# Altium integrated library NSC Switcher.IntLib: 2027 symbols (part 53 of 54)
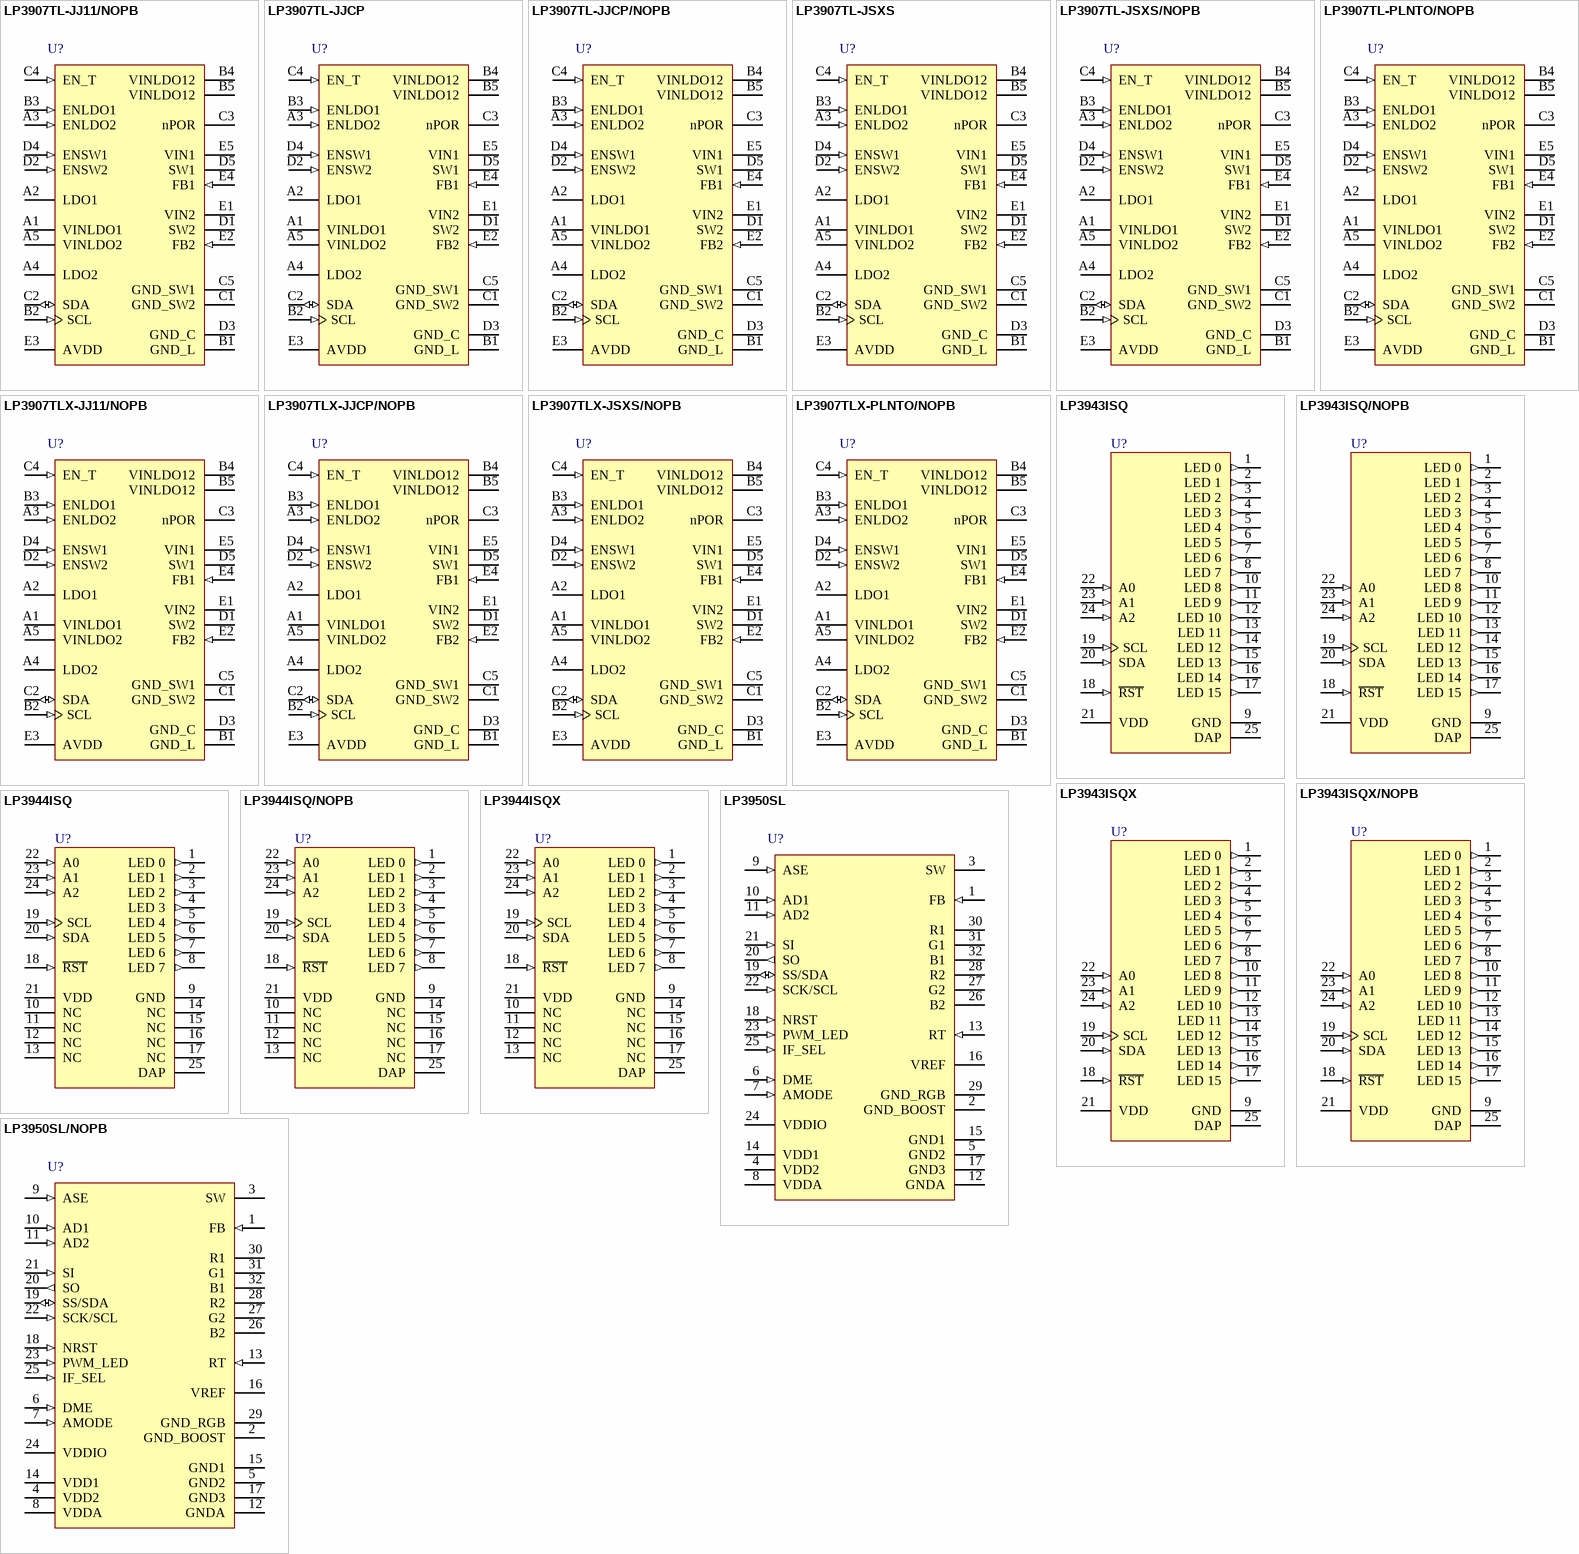
[diagram p115: symbols LP3907TL-JJ11/NOPB to LP3950SL/NOPB]

## LP3907TL-PLNTO/NOPB
designator U?
Dual High-Current Step-Down DC/DC and Dual Linear Regulator with I2C Compatible Interface, 25 pin Micro SMD, Pb-Free; PartNumber: LP3907TL-PLNTO/NOPB; Manufacturer: National Semiconductor; PackageTopMarking: XYTT*I V027; PowerWise: N; CompType: Switcher; Published: 1-Mar-2010; DatasheetVersion: Dec-2009; PackageVersion: revD, Dec-2003; PackageReference: TLA25AAA; Publisher: Altium Limited; PackageDescription: Thin Micro SMD, 25 Bump (Large), 0.5mm Pitch; RoHS: Y; PinCount: 25; Code_JEDEC: MO-211-DH; ComponentLink1Description: LP3907 Datasheet; ComponentLink1URL: http://www.national.com/ds/LP/LP3907.pdf; ComponentLink2Description: LP3907 Web Page; ComponentLink2URL: http://www.national.com/pf/LP/LP3907.html; ComponentLink3Description: TLA25AAA Package Page; ComponentLink3URL: http://www.national.com/packaging/folders/tla25aaa.html
footprint TLA25AAA (Micro SMD, 25-Leads, Body 2.49x2.49mm, Pitch 0.5mm, NSC Recommended)
pins: A1 VINLDO1 (power), A2 LDO1 (power), A3 ENLDO2 (in), A4 LDO2 (power), A5 VINLDO2 (power), B1 GND_L (power), B2 SCL (in), B3 ENLDO1 (in), B4 VINLDO12 (power), B5 VINLDO12 (power), C1 GND_SW2 (power), C2 SDA (io), C3 nPOR (oc), C4 EN_T (in), C5 GND_SW1 (power), D1 SW2 (power), D2 ENSW2 (in), D3 GND_C (power), D4 ENSW1 (in), D5 SW1 (power), E1 VIN2 (power), E2 FB2 (in), E3 AVDD (power), E4 FB1 (in), E5 VIN1 (power)

## LP3907TLX-JJ11/NOPB
designator U?
Dual High-Current Step-Down DC/DC and Dual Linear Regulator with I2C Compatible Interface, 25-pin Micro SMD, Pb-Free; PartNumber: LP3907TLX-JJ11/NOPB; Manufacturer: National Semiconductor; PackageTopMarking: XYTT*I V013; PowerWise: N; CompType: Switcher; Published: 1-Mar-2010; DatasheetVersion: Dec-2009; PackageVersion: revD, Dec-2003; PackageReference: TLA25AAA; Publisher: Altium Limited; PackageDescription: Thin Micro SMD, 25 Bump (Large), 0.5mm Pitch; Supplier 1: Digi-Key; Supplier Part Number 1: LP3907TLX-JJ11-ND; RoHS: Y; PinCount: 25; Code_JEDEC: MO-211-DH; ComponentLink1Description: LP3907 Datasheet; ComponentLink1URL: http://www.national.com/ds/LP/LP3907.pdf; ComponentLink2Description: LP3907 Web Page; ComponentLink2URL: http://www.national.com/pf/LP/LP3907.html; ComponentLink3Description: TLA25AAA Package Page; ComponentLink3URL: http://www.national.com/packaging/folders/tla25aaa.html
footprint TLA25AAA (Micro SMD, 25-Leads, Body 2.49x2.49mm, Pitch 0.5mm, NSC Recommended)
pins: A1 VINLDO1 (power), A2 LDO1 (power), A3 ENLDO2 (in), A4 LDO2 (power), A5 VINLDO2 (power), B1 GND_L (power), B2 SCL (in), B3 ENLDO1 (in), B4 VINLDO12 (power), B5 VINLDO12 (power), C1 GND_SW2 (power), C2 SDA (io), C3 nPOR (oc), C4 EN_T (in), C5 GND_SW1 (power), D1 SW2 (power), D2 ENSW2 (in), D3 GND_C (power), D4 ENSW1 (in), D5 SW1 (power), E1 VIN2 (power), E2 FB2 (in), E3 AVDD (power), E4 FB1 (in), E5 VIN1 (power)

## LP3907TLX-JJCP/NOPB
designator U?
Dual High-Current Step-Down DC/DC and Dual Linear Regulator with I2C Compatible Interface, 25-pin Micro SMD, Pb-Free; PartNumber: LP3907TLX-JJCP/NOPB; Manufacturer: National Semiconductor; PackageTopMarking: XYTT*I V016; PowerWise: N; CompType: Switcher; Published: 1-Mar-2010; DatasheetVersion: Dec-2009; PackageVersion: revD, Dec-2003; PackageReference: TLA25AAA; Publisher: Altium Limited; PackageDescription: Thin Micro SMD, 25 Bump (Large), 0.5mm Pitch; Supplier 1: Digi-Key; Supplier Part Number 1: LP3907TLX-JJCP-ND; RoHS: Y; PinCount: 25; Code_JEDEC: MO-211-DH; ComponentLink1Description: LP3907 Datasheet; ComponentLink1URL: http://www.national.com/ds/LP/LP3907.pdf; ComponentLink2Description: LP3907 Web Page; ComponentLink2URL: http://www.national.com/pf/LP/LP3907.html; ComponentLink3Description: TLA25AAA Package Page; ComponentLink3URL: http://www.national.com/packaging/folders/tla25aaa.html
footprint TLA25AAA (Micro SMD, 25-Leads, Body 2.49x2.49mm, Pitch 0.5mm, NSC Recommended)
pins: A1 VINLDO1 (power), A2 LDO1 (power), A3 ENLDO2 (in), A4 LDO2 (power), A5 VINLDO2 (power), B1 GND_L (power), B2 SCL (in), B3 ENLDO1 (in), B4 VINLDO12 (power), B5 VINLDO12 (power), C1 GND_SW2 (power), C2 SDA (io), C3 nPOR (oc), C4 EN_T (in), C5 GND_SW1 (power), D1 SW2 (power), D2 ENSW2 (in), D3 GND_C (power), D4 ENSW1 (in), D5 SW1 (power), E1 VIN2 (power), E2 FB2 (in), E3 AVDD (power), E4 FB1 (in), E5 VIN1 (power)

## LP3907TLX-JSXS/NOPB
designator U?
Dual High-Current Step-Down DC/DC and Dual Linear Regulator with I2C Compatible Interface, 25-pin Micro SMD, Pb-Free; PartNumber: LP3907TLX-JSXS/NOPB; Manufacturer: National Semiconductor; PackageTopMarking: XYTT*I V012; PowerWise: N; CompType: Switcher; Published: 1-Mar-2010; DatasheetVersion: Dec-2009; PackageVersion: revD, Dec-2003; PackageReference: TLA25AAA; Publisher: Altium Limited; PackageDescription: Thin Micro SMD, 25 Bump (Large), 0.5mm Pitch; Supplier 1: Digi-Key; Supplier Part Number 1: LP3907TLX-JSXS-ND; RoHS: Y; PinCount: 25; Code_JEDEC: MO-211-DH; ComponentLink1Description: LP3907 Datasheet; ComponentLink1URL: http://www.national.com/ds/LP/LP3907.pdf; ComponentLink2Description: LP3907 Web Page; ComponentLink2URL: http://www.national.com/pf/LP/LP3907.html; ComponentLink3Description: TLA25AAA Package Page; ComponentLink3URL: http://www.national.com/packaging/folders/tla25aaa.html
footprint TLA25AAA (Micro SMD, 25-Leads, Body 2.49x2.49mm, Pitch 0.5mm, NSC Recommended)
pins: A1 VINLDO1 (power), A2 LDO1 (power), A3 ENLDO2 (in), A4 LDO2 (power), A5 VINLDO2 (power), B1 GND_L (power), B2 SCL (in), B3 ENLDO1 (in), B4 VINLDO12 (power), B5 VINLDO12 (power), C1 GND_SW2 (power), C2 SDA (io), C3 nPOR (oc), C4 EN_T (in), C5 GND_SW1 (power), D1 SW2 (power), D2 ENSW2 (in), D3 GND_C (power), D4 ENSW1 (in), D5 SW1 (power), E1 VIN2 (power), E2 FB2 (in), E3 AVDD (power), E4 FB1 (in), E5 VIN1 (power)

## LP3907TLX-PLNTO/NOPB
designator U?
Dual High-Current Step-Down DC/DC and Dual Linear Regulator with I2C Compatible Interface, 25 pin Micro SMD, Pb-Free; PartNumber: LP3907TLX-PLNTO/NOPB; Manufacturer: National Semiconductor; PackageTopMarking: XYTT*I V027; PowerWise: N; CompType: Switcher; Published: 1-Mar-2010; DatasheetVersion: Dec-2009; PackageVersion: revD, Dec-2003; PackageReference: TLA25AAA; Publisher: Altium Limited; PackageDescription: Thin Micro SMD, 25 Bump (Large), 0.5mm Pitch; RoHS: Y; PinCount: 25; Code_JEDEC: MO-211-DH; ComponentLink1Description: LP3907 Datasheet; ComponentLink1URL: http://www.national.com/ds/LP/LP3907.pdf; ComponentLink2Description: LP3907 Web Page; ComponentLink2URL: http://www.national.com/pf/LP/LP3907.html; ComponentLink3Description: TLA25AAA Package Page; ComponentLink3URL: http://www.national.com/packaging/folders/tla25aaa.html
footprint TLA25AAA (Micro SMD, 25-Leads, Body 2.49x2.49mm, Pitch 0.5mm, NSC Recommended)
pins: A1 VINLDO1 (power), A2 LDO1 (power), A3 ENLDO2 (in), A4 LDO2 (power), A5 VINLDO2 (power), B1 GND_L (power), B2 SCL (in), B3 ENLDO1 (in), B4 VINLDO12 (power), B5 VINLDO12 (power), C1 GND_SW2 (power), C2 SDA (io), C3 nPOR (oc), C4 EN_T (in), C5 GND_SW1 (power), D1 SW2 (power), D2 ENSW2 (in), D3 GND_C (power), D4 ENSW1 (in), D5 SW1 (power), E1 VIN2 (power), E2 FB2 (in), E3 AVDD (power), E4 FB1 (in), E5 VIN1 (power)

## LP3943ISQ
designator U?
RGB/White/Blue 16-LED Fun Light Driver, 24-pin LLP; PartNumber: LP3943ISQ; Manufacturer: National Semiconductor; PackageTopMarking: NS*UZXYTT*3943SQ; PowerWise: Y; CompType: Switcher; Published: 4-Dec-2008; DatasheetVersion: Nov-2003; PackageVersion: revA, Sep-2003; PackageReference: SQA24C; Publisher: Altium Limited; PackageDescription: LLP, Plastic, Quad, 4 x 4 x 0.8mm Body, 24 Lead, 0.5mm Pitch, No Pullback, Custom; Supplier 1: Farnell; Supplier Part Number 1: 8206872; RoHS: N; PinCount: 24; Code_JEDEC: MO-220-WGGD-2; ComponentLink1Description: LP3943 Datasheet; ComponentLink1URL: http://www.national.com/ds/LP/LP3943.pdf; ComponentLink2Description: LP3943 Web Page; ComponentLink2URL: http://www.national.com/pf/LP/LP3943.html; ComponentLink3Description: SQA24C Package Page; ComponentLink3URL: http://www.national.com/packaging/folders/sqa24c.html
footprint SQA24C (QFN, 24-Leads, Body 4x4mm, Pitch 0.5mm, NSC Recommended)
pins: 1 LED 0 (out), 2 LED 1 (out), 3 LED 2 (out), 4 LED 3 (out), 5 LED 4 (out), 6 LED 5 (out), 7 LED 6 (out), 8 LED 7 (out), 9 GND (power), 10 LED 8 (out), 11 LED 9 (out), 12 LED 10 (out), 13 LED 11 (out), 14 LED 12 (out), 15 LED 13 (out), 16 LED 14 (out), 17 LED 15 (out), 18 ~{RST} (in), 19 SCL (in), 20 SDA (in), 21 VDD (power), 22 A0 (in), 23 A1 (in), 24 A2 (in), 25 DAP (power)

## LP3943ISQ/NOPB
designator U?
RGB/White/Blue 16-LED Fun Light Driver, 24-pin LLP, Pb-Free; PartNumber: LP3943ISQ/NOPB; Manufacturer: National Semiconductor; PackageTopMarking: NS*UZXYTT*3943SQ; PowerWise: Y; CompType: Switcher; Published: 1-Mar-2010; DatasheetVersion: Nov-2003; PackageVersion: revA, Sep-2003; PackageReference: SQA24C; Publisher: Altium Limited; PackageDescription: LLP, Plastic, Quad, 4 x 4 x 0.8mm Body, 24 Lead, 0.5mm Pitch, No Pullback, Custom; Supplier 1: Digi-Key; Supplier Part Number 1: LP3943ISQTR-ND; Supplier 2: Digi-Key; Supplier Part Number 2: LP3943ISQCT-ND; Supplier 3: Digi-Key; Supplier Part Number 3: LP3943ISQDKR-ND; Supplier 4: Farnell; Supplier Part Number 4: 1675282; RoHS: Y; PinCount: 24; Code_JEDEC: MO-220-WGGD-2; ComponentLink1Description: LP3943 Datasheet; ComponentLink1URL: http://www.national.com/ds/LP/LP3943.pdf; ComponentLink2Description: LP3943 Web Page; ComponentLink2URL: http://www.national.com/pf/LP/LP3943.html; ComponentLink3Description: SQA24C Package Page; ComponentLink3URL: http://www.national.com/packaging/folders/sqa24c.html
footprint SQA24C (QFN, 24-Leads, Body 4x4mm, Pitch 0.5mm, NSC Recommended)
pins: 1 LED 0 (out), 2 LED 1 (out), 3 LED 2 (out), 4 LED 3 (out), 5 LED 4 (out), 6 LED 5 (out), 7 LED 6 (out), 8 LED 7 (out), 9 GND (power), 10 LED 8 (out), 11 LED 9 (out), 12 LED 10 (out), 13 LED 11 (out), 14 LED 12 (out), 15 LED 13 (out), 16 LED 14 (out), 17 LED 15 (out), 18 ~{RST} (in), 19 SCL (in), 20 SDA (in), 21 VDD (power), 22 A0 (in), 23 A1 (in), 24 A2 (in), 25 DAP (power)

## LP3943ISQX
designator U?
RGB/White/Blue 16-LED Fun Light Driver, 24-pin LLP; PartNumber: LP3943ISQX; Manufacturer: National Semiconductor; PackageTopMarking: NS*UZXYTT*3943SQ; PowerWise: Y; CompType: Switcher; Published: 1-Mar-2010; DatasheetVersion: Nov-2003; PackageVersion: revA, Sep-2003; PackageReference: SQA24C; Publisher: Altium Limited; PackageDescription: LLP, Plastic, Quad, 4 x 4 x 0.8mm Body, 24 Lead, 0.5mm Pitch, No Pullback, Custom; RoHS: N; PinCount: 24; Code_JEDEC: MO-220-WGGD-2; ComponentLink1Description: LP3943 Datasheet; ComponentLink1URL: http://www.national.com/ds/LP/LP3943.pdf; ComponentLink2Description: LP3943 Web Page; ComponentLink2URL: http://www.national.com/pf/LP/LP3943.html; ComponentLink3Description: SQA24C Package Page; ComponentLink3URL: http://www.national.com/packaging/folders/sqa24c.html
footprint SQA24C (QFN, 24-Leads, Body 4x4mm, Pitch 0.5mm, NSC Recommended)
pins: 1 LED 0 (out), 2 LED 1 (out), 3 LED 2 (out), 4 LED 3 (out), 5 LED 4 (out), 6 LED 5 (out), 7 LED 6 (out), 8 LED 7 (out), 9 GND (power), 10 LED 8 (out), 11 LED 9 (out), 12 LED 10 (out), 13 LED 11 (out), 14 LED 12 (out), 15 LED 13 (out), 16 LED 14 (out), 17 LED 15 (out), 18 ~{RST} (in), 19 SCL (in), 20 SDA (in), 21 VDD (power), 22 A0 (in), 23 A1 (in), 24 A2 (in), 25 DAP (power)

## LP3943ISQX/NOPB
designator U?
RGB/White/Blue 16-LED Fun Light Driver, 24-pin LLP, Pb-Free; PartNumber: LP3943ISQX/NOPB; Manufacturer: National Semiconductor; PackageTopMarking: NS*UZXYTT*3943SQ; PowerWise: Y; CompType: Switcher; Published: 1-Mar-2010; DatasheetVersion: Nov-2003; PackageVersion: revA, Sep-2003; PackageReference: SQA24C; Publisher: Altium Limited; PackageDescription: LLP, Plastic, Quad, 4 x 4 x 0.8mm Body, 24 Lead, 0.5mm Pitch, No Pullback, Custom; Supplier 1: Digi-Key; Supplier Part Number 1: LP3943ISQX-ND; RoHS: Y; PinCount: 24; Code_JEDEC: MO-220-WGGD-2; ComponentLink1Description: LP3943 Datasheet; ComponentLink1URL: http://www.national.com/ds/LP/LP3943.pdf; ComponentLink2Description: LP3943 Web Page; ComponentLink2URL: http://www.national.com/pf/LP/LP3943.html; ComponentLink3Description: SQA24C Package Page; ComponentLink3URL: http://www.national.com/packaging/folders/sqa24c.html
footprint SQA24C (QFN, 24-Leads, Body 4x4mm, Pitch 0.5mm, NSC Recommended)
pins: 1 LED 0 (out), 2 LED 1 (out), 3 LED 2 (out), 4 LED 3 (out), 5 LED 4 (out), 6 LED 5 (out), 7 LED 6 (out), 8 LED 7 (out), 9 GND (power), 10 LED 8 (out), 11 LED 9 (out), 12 LED 10 (out), 13 LED 11 (out), 14 LED 12 (out), 15 LED 13 (out), 16 LED 14 (out), 17 LED 15 (out), 18 ~{RST} (in), 19 SCL (in), 20 SDA (in), 21 VDD (power), 22 A0 (in), 23 A1 (in), 24 A2 (in), 25 DAP (power)

## LP3944ISQ
designator U?
RGB/White/Blue 8-LED Fun Light Driver, 24-pin LLP; PartNumber: LP3944ISQ; Manufacturer: National Semiconductor; PackageTopMarking: NS*UZXYTT*3944SQ; PowerWise: Y; CompType: Switcher; Published: 4-Dec-2008; DatasheetVersion: Nov-2003; PackageVersion: revB, Aug-2003; PackageReference: SQA24A; Publisher: Altium Limited; PackageDescription: LLP, Plastic, Quad, 4 x 4 x 0.8mm Body, 24 Lead, 0.5mm Pitch, No Pullback; Supplier 1: Farnell; Supplier Part Number 1: 8206880; RoHS: N; PinCount: 24; Code_JEDEC: MO-220-WGGD-6; ComponentLink1Description: LP3944 Datasheet; ComponentLink1URL: http://www.national.com/ds/LP/LP3944.pdf; ComponentLink2Description: LP3944 Web Page; ComponentLink2URL: http://www.national.com/pf/LP/LP3944.html; ComponentLink3Description: SQA24A Package Page; ComponentLink3URL: http://www.national.com/packaging/folders/sqa24a.html
footprint SQA24A (QFN, 24-Leads, Body 4x4mm, Pitch 0.5mm, NSC Recommended)
pins: 1 LED 0 (out), 2 LED 1 (out), 3 LED 2 (out), 4 LED 3 (out), 5 LED 4 (out), 6 LED 5 (out), 7 LED 6 (out), 8 LED 7 (out), 9 GND (power), 10 NC, 11 NC, 12 NC, 13 NC, 14 NC, 15 NC, 16 NC, 17 NC, 18 ~{RST} (in), 19 SCL (in), 20 SDA (in), 21 VDD (power), 22 A0 (in), 23 A1 (in), 24 A2 (in), 25 DAP (power)

## LP3944ISQ/NOPB
designator U?
RGB/White/Blue 8-LED Fun Light Driver, 24-pin LLP, Pb-Free; PartNumber: LP3944ISQ/NOPB; Manufacturer: National Semiconductor; PackageTopMarking: NS*UZXYTT*3944SQ; PowerWise: Y; CompType: Switcher; Published: 1-Mar-2010; DatasheetVersion: Nov-2003; PackageVersion: revB, Aug-2003; PackageReference: SQA24A; Publisher: Altium Limited; PackageDescription: LLP, Plastic, Quad, 4 x 4 x 0.8mm Body, 24 Lead, 0.5mm Pitch, No Pullback; Supplier 1: Digi-Key; Supplier Part Number 1: LP3944ISQTR-ND; Supplier 2: Digi-Key; Supplier Part Number 2: LP3944ISQCT-ND; Supplier 3: Digi-Key; Supplier Part Number 3: LP3944ISQDKR-ND; Supplier 4: Farnell; Supplier Part Number 4: 1675283; RoHS: Y; PinCount: 24; Code_JEDEC: MO-220-WGGD-6; ComponentLink1Description: LP3944 Datasheet; ComponentLink1URL: http://www.national.com/ds/LP/LP3944.pdf; ComponentLink2Description: LP3944 Web Page; ComponentLink2URL: http://www.national.com/pf/LP/LP3944.html; ComponentLink3Description: SQA24A Package Page; ComponentLink3URL: http://www.national.com/packaging/folders/sqa24a.html
footprint SQA24A (QFN, 24-Leads, Body 4x4mm, Pitch 0.5mm, NSC Recommended)
pins: 1 LED 0 (out), 2 LED 1 (out), 3 LED 2 (out), 4 LED 3 (out), 5 LED 4 (out), 6 LED 5 (out), 7 LED 6 (out), 8 LED 7 (out), 9 GND (power), 10 NC, 11 NC, 12 NC, 13 NC, 14 NC, 15 NC, 16 NC, 17 NC, 18 ~{RST} (in), 19 SCL (in), 20 SDA (in), 21 VDD (power), 22 A0 (in), 23 A1 (in), 24 A2 (in), 25 DAP (power)

## LP3944ISQX
designator U?
RGB/White/Blue 8-LED Fun Light Driver, 24-pin LLP; PartNumber: LP3944ISQX; Manufacturer: National Semiconductor; PackageTopMarking: NS*UZXYTT*3944SQ; PowerWise: Y; CompType: Switcher; Published: 1-Mar-2010; DatasheetVersion: Nov-2003; PackageVersion: revB, Aug-2003; PackageReference: SQA24A; Publisher: Altium Limited; PackageDescription: LLP, Plastic, Quad, 4 x 4 x 0.8mm Body, 24 Lead, 0.5mm Pitch, No Pullback; RoHS: N; PinCount: 24; Code_JEDEC: MO-220-WGGD-6; ComponentLink1Description: LP3944 Datasheet; ComponentLink1URL: http://www.national.com/ds/LP/LP3944.pdf; ComponentLink2Description: LP3944 Web Page; ComponentLink2URL: http://www.national.com/pf/LP/LP3944.html; ComponentLink3Description: SQA24A Package Page; ComponentLink3URL: http://www.national.com/packaging/folders/sqa24a.html
footprint SQA24A (QFN, 24-Leads, Body 4x4mm, Pitch 0.5mm, NSC Recommended)
pins: 1 LED 0 (out), 2 LED 1 (out), 3 LED 2 (out), 4 LED 3 (out), 5 LED 4 (out), 6 LED 5 (out), 7 LED 6 (out), 8 LED 7 (out), 9 GND (power), 10 NC, 11 NC, 12 NC, 13 NC, 14 NC, 15 NC, 16 NC, 17 NC, 18 ~{RST} (in), 19 SCL (in), 20 SDA (in), 21 VDD (power), 22 A0 (in), 23 A1 (in), 24 A2 (in), 25 DAP (power)

## LP3950SL
designator U?
Color LED Driver with Audio Synchronizer, 32-pin Laminate TCSP; PartNumber: LP3950SL; Manufacturer: National Semiconductor; PackageTopMarking: NSZXYTT*LP3950SL; PowerWise: Y; CompType: Switcher; Published: 4-Dec-2008; DatasheetVersion: Feb-2005; PackageVersion: revA, Aug-2001; PackageReference: SLD32A; Publisher: Altium Limited; PackageDescription: Thin CSP, Plastic, Laminated, 4.5 x 5.5 x 0.8mm Body, 32 Lead, 0.5mm Pitch; Supplier 1: Farnell; Supplier Part Number 1: 1008069; RoHS: Y; PinCount: 32; Code_JEDEC: MO-208-GEEA; ComponentLink1Description: LP3950 Datasheet; ComponentLink1URL: http://www.national.com/ds/LP/LP3950.pdf; ComponentLink2Description: LP3950 Web Page; ComponentLink2URL: http://www.national.com/pf/LP/LP3950.html; ComponentLink3Description: SLD32A Package Page; ComponentLink3URL: http://www.national.com/packaging/folders/sld32a.html
footprint SLD32A (PQFN, 32-Leads (9x7 pads), Body 4.5x5.5mm, Pitch 0.5mm, NSC Recommended)
pins: 1 FB (in), 2 GND_BOOST (power), 3 SW (power), 4 VDD2 (power), 5 GND2 (power), 6 DME (in), 7 AMODE (in), 8 VDDA (power), 9 ASE (in), 10 AD1 (in), 11 AD2 (in), 12 GNDA (power), 13 RT (in), 14 VDD1 (power), 15 GND1 (power), 16 VREF, 17 GND3 (power), 18 NRST (in), 19 SS/SDA (io), 20 SO (out), 21 SI (in), 22 SCK/SCL (in), 23 PWM_LED (in), 24 VDDIO (power), 25 IF_SEL (in), 26 B2 (oc), 27 G2 (oc), 28 R2 (oc), 29 GND_RGB (power), 30 R1 (oc), 31 G1 (oc), 32 B1 (oc)

## LP3950SL/NOPB
designator U?
Color LED Driver with Audio Synchronizer, 32-pin Laminate TCSP, Pb-Free; PartNumber: LP3950SL/NOPB; Manufacturer: National Semiconductor; PackageTopMarking: NSZXYTTE#*LP3950SL; PowerWise: Y; CompType: Switcher; Published: 1-Mar-2010; DatasheetVersion: Feb-2005; PackageVersion: revA, Aug-2001; PackageReference: SLD32A; Publisher: Altium Limited; PackageDescription: Thin CSP, Plastic, Laminated, 4.5 x 5.5 x 0.8mm Body, 32 Lead, 0.5mm Pitch; Supplier 1: Digi-Key; Supplier Part Number 1: LP3950SLTR-ND; Supplier 2: Digi-Key; Supplier Part Number 2: LP3950SLCT-ND; Supplier 3: Digi-Key; Supplier Part Number 3: LP3950SLDKR-ND; RoHS: Y; PinCount: 32; Code_JEDEC: MO-208-GEEA; ComponentLink1Description: LP3950 Datasheet; ComponentLink1URL: http://www.national.com/ds/LP/LP3950.pdf; ComponentLink2Description: LP3950 Web Page; ComponentLink2URL: http://www.national.com/pf/LP/LP3950.html; ComponentLink3Description: SLD32A Package Page; ComponentLink3URL: http://www.national.com/packaging/folders/sld32a.html
footprint SLD32A (PQFN, 32-Leads (9x7 pads), Body 4.5x5.5mm, Pitch 0.5mm, NSC Recommended)
pins: 1 FB (in), 2 GND_BOOST (power), 3 SW (power), 4 VDD2 (power), 5 GND2 (power), 6 DME (in), 7 AMODE (in), 8 VDDA (power), 9 ASE (in), 10 AD1 (in), 11 AD2 (in), 12 GNDA (power), 13 RT (in), 14 VDD1 (power), 15 GND1 (power), 16 VREF, 17 GND3 (power), 18 NRST (in), 19 SS/SDA (io), 20 SO (out), 21 SI (in), 22 SCK/SCL (in), 23 PWM_LED (in), 24 VDDIO (power), 25 IF_SEL (in), 26 B2 (oc), 27 G2 (oc), 28 R2 (oc), 29 GND_RGB (power), 30 R1 (oc), 31 G1 (oc), 32 B1 (oc)

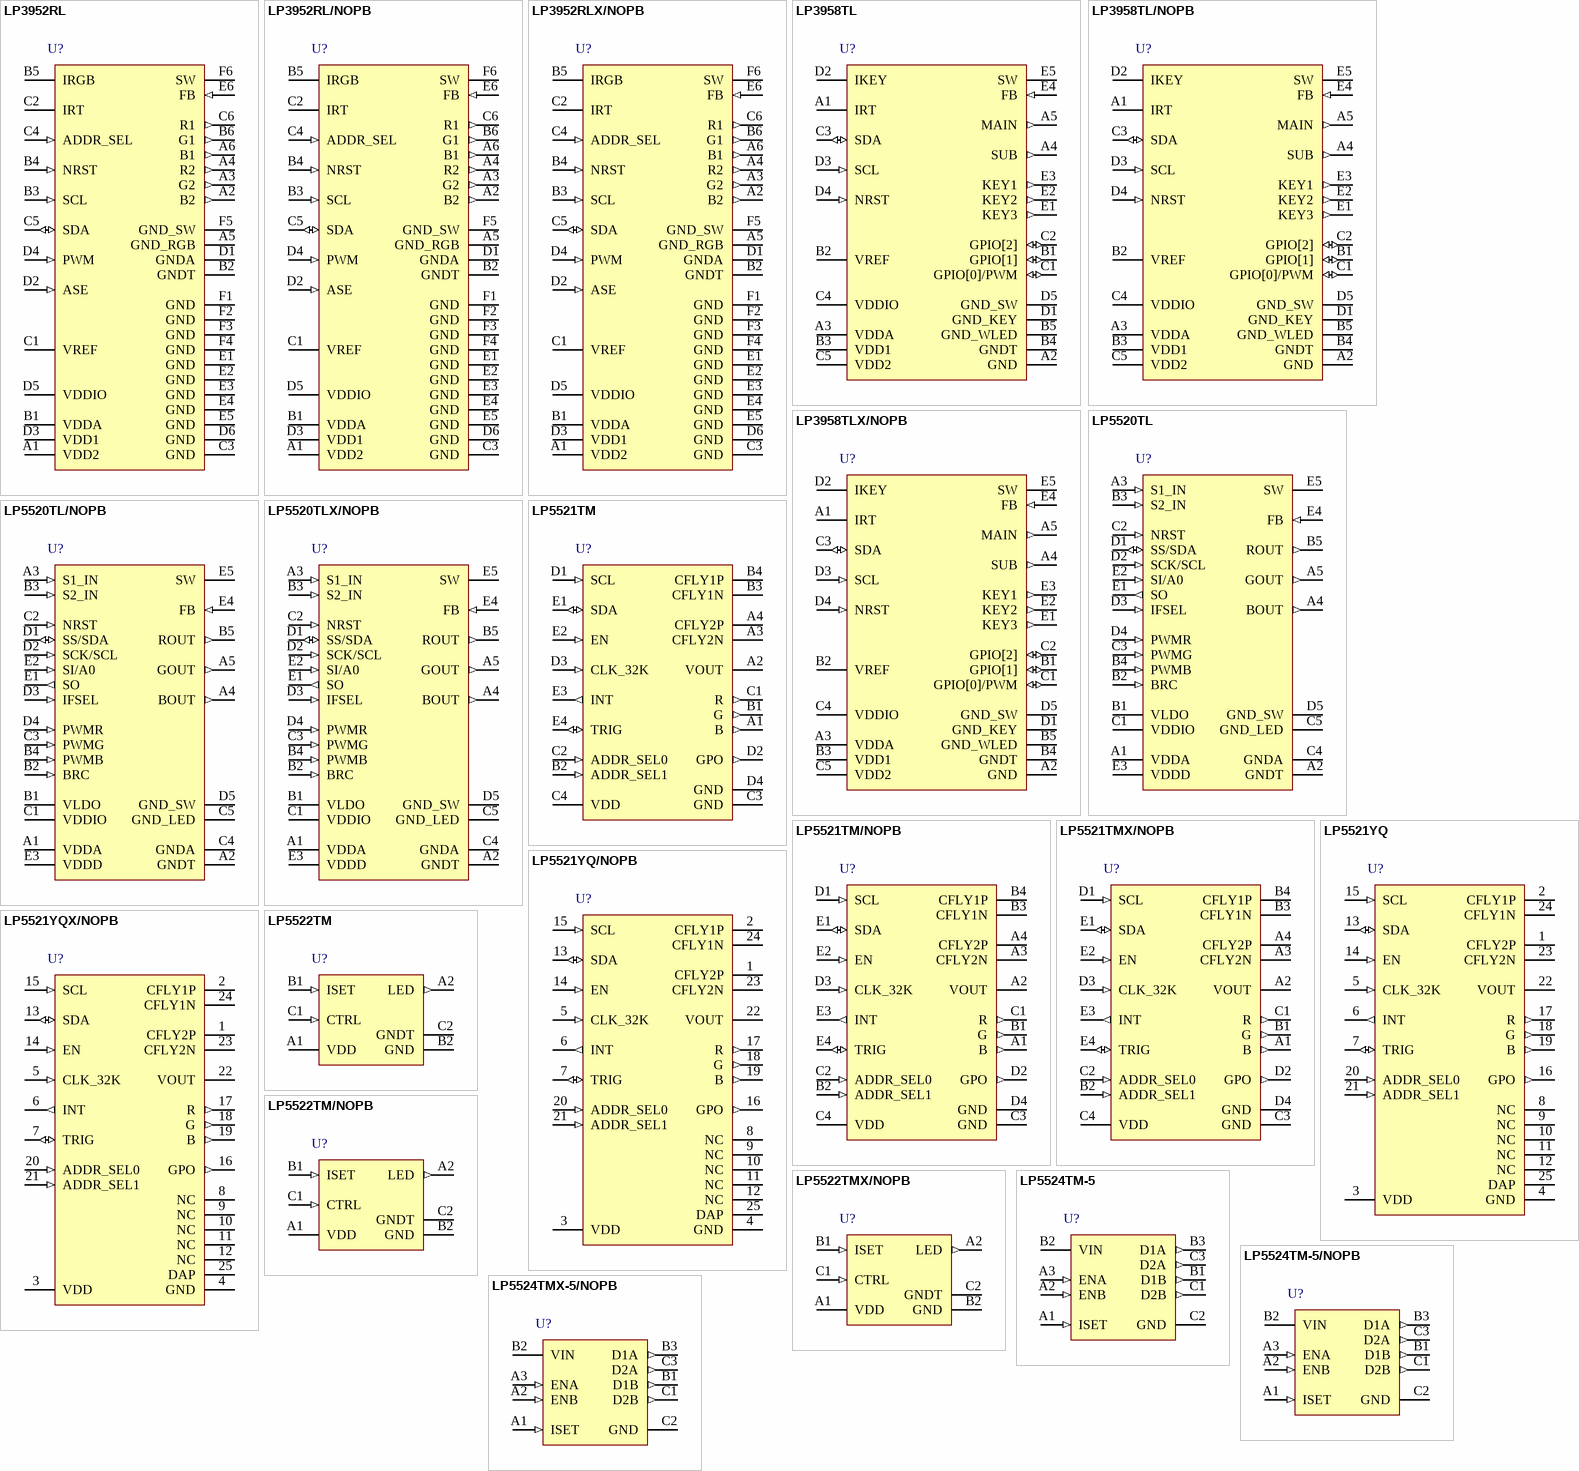
[diagram p61: symbols LP3952RL to LP5524TMX-5/NOPB]

## LP3952RL
designator U?
6-Channel Color LED Driver with Audio Synchronization, 36-pin Micro SMDXT; PartNumber: LP3952RL; Manufacturer: National Semiconductor; PackageTopMarking: XYTT*I D62B; PowerWise: Y; CompType: Switcher; Published: 4-Dec-2008; DatasheetVersion: Jul-2007; PackageVersion: Aug-2007; PackageReference: RLA36AAA; Publisher: Altium Limited; PackageDescription: Micro SMDxt, 36 Bump (Large), 0.5mm Pitch; RoHS: Y; PinCount: 36; ComponentLink1Description: LP3952 Datasheet; ComponentLink1URL: http://www.national.com/ds/LP/LP3952.pdf; ComponentLink2Description: LP3952 Web Page; ComponentLink2URL: http://www.national.com/pf/LP/LP3952.html
footprint RLA36AAA (Micro SMD, 36-Leads, Body 3x3mm, Pitch 0.5mm, NSC Recommended)
pins: A1 VDD2 (power), A2 B2 (out), A3 G2 (out), A4 R2 (out), A5 GND_RGB (power), A6 B1 (out), B1 VDDA (power), B2 GNDT (power), B3 SCL (in), B4 NRST (in), B5 IRGB, B6 G1 (out), C1 VREF, C2 IRT, C3 GND (power), C4 ADDR_SEL (in), C5 SDA (io), C6 R1 (out), D1 GNDA (power), D2 ASE (in), D3 VDD1 (power), D4 PWM (in), D5 VDDIO (power), D6 GND (power), E1 GND (power), E2 GND (power), E3 GND (power), E4 GND (power), E5 GND (power), E6 FB (in), F1 GND (power), F2 GND (power), F3 GND (power), F4 GND (power), F5 GND_SW (power), F6 SW (power)

## LP3952RL/NOPB
designator U?
6-Channel Color LED Driver with Audio Synchronization, 36-pin Micro SMDXT, Pb-Free; PartNumber: LP3952RL/NOPB; Manufacturer: National Semiconductor; PackageTopMarking: XYTT*I D62B; PowerWise: Y; CompType: Switcher; Published: 1-Mar-2010; DatasheetVersion: Jul-2007; PackageVersion: Aug-2007; PackageReference: RLA36AAA; Publisher: Altium Limited; PackageDescription: Micro SMDxt, 36 Bump (Large), 0.5mm Pitch; Supplier 1: Digi-Key; Supplier Part Number 1: LP3952RLTR-ND; Supplier 2: Digi-Key; Supplier Part Number 2: LP3952RLCT-ND; Supplier 3: Digi-Key; Supplier Part Number 3: LP3952RLDKR-ND; RoHS: Y; PinCount: 36; ComponentLink1Description: LP3952 Datasheet; ComponentLink1URL: http://www.national.com/ds/LP/LP3952.pdf; ComponentLink2Description: LP3952 Web Page; ComponentLink2URL: http://www.national.com/pf/LP/LP3952.html; ComponentLink3Description: RLA36AAA Package Page; ComponentLink3URL: http://www.national.com/packaging/folders/rla36aaa.html
footprint RLA36AAA (Micro SMD, 36-Leads, Body 3x3mm, Pitch 0.5mm, NSC Recommended)
pins: A1 VDD2 (power), A2 B2 (out), A3 G2 (out), A4 R2 (out), A5 GND_RGB (power), A6 B1 (out), B1 VDDA (power), B2 GNDT (power), B3 SCL (in), B4 NRST (in), B5 IRGB, B6 G1 (out), C1 VREF, C2 IRT, C3 GND (power), C4 ADDR_SEL (in), C5 SDA (io), C6 R1 (out), D1 GNDA (power), D2 ASE (in), D3 VDD1 (power), D4 PWM (in), D5 VDDIO (power), D6 GND (power), E1 GND (power), E2 GND (power), E3 GND (power), E4 GND (power), E5 GND (power), E6 FB (in), F1 GND (power), F2 GND (power), F3 GND (power), F4 GND (power), F5 GND_SW (power), F6 SW (power)

## LP3952RLX/NOPB
designator U?
6-Channel Color LED Driver with Audio Synchronization, 36-pin Micro SMDXT, Pb-Free; PartNumber: LP3952RLX/NOPB; Manufacturer: National Semiconductor; PackageTopMarking: XYTT*I D62B; PowerWise: Y; CompType: Switcher; Published: 1-Mar-2010; DatasheetVersion: Jul-2007; PackageVersion: Aug-2007; PackageReference: RLA36AAA; Publisher: Altium Limited; PackageDescription: Micro SMDxt, 36 Bump (Large), 0.5mm Pitch; Supplier 1: Digi-Key; Supplier Part Number 1: LP3952RLX-ND; RoHS: Y; PinCount: 36; ComponentLink1Description: LP3952 Datasheet; ComponentLink1URL: http://www.national.com/ds/LP/LP3952.pdf; ComponentLink2Description: LP3952 Web Page; ComponentLink2URL: http://www.national.com/pf/LP/LP3952.html; ComponentLink3Description: RLA36AAA Package Page; ComponentLink3URL: http://www.national.com/packaging/folders/rla36aaa.html
footprint RLA36AAA (Micro SMD, 36-Leads, Body 3x3mm, Pitch 0.5mm, NSC Recommended)
pins: A1 VDD2 (power), A2 B2 (out), A3 G2 (out), A4 R2 (out), A5 GND_RGB (power), A6 B1 (out), B1 VDDA (power), B2 GNDT (power), B3 SCL (in), B4 NRST (in), B5 IRGB, B6 G1 (out), C1 VREF, C2 IRT, C3 GND (power), C4 ADDR_SEL (in), C5 SDA (io), C6 R1 (out), D1 GNDA (power), D2 ASE (in), D3 VDD1 (power), D4 PWM (in), D5 VDDIO (power), D6 GND (power), E1 GND (power), E2 GND (power), E3 GND (power), E4 GND (power), E5 GND (power), E6 FB (in), F1 GND (power), F2 GND (power), F3 GND (power), F4 GND (power), F5 GND_SW (power), F6 SW (power)

## LP3958TL
designator U?
Lighting Management Unit with High Voltage Boost Converter, 25-pin Micro SMD; PartNumber: LP3958TL; Manufacturer: National Semiconductor; PackageTopMarking: XYTT*I SJHB; PowerWise: Y; CompType: Switcher; Published: 4-Dec-2008; DatasheetVersion: Feb-2006; PackageVersion: revD, Dec-2003; PackageReference: TLA25CCA; Publisher: Altium Limited; PackageDescription: Thin Micro SMD, 25 Bump (Large), 0.5mm Pitch; RoHS: Y; PinCount: 25; Code_JEDEC: MO-211-DH; ComponentLink1Description: LP3958 Datasheet; ComponentLink1URL: http://www.national.com/ds/LP/LP3958.pdf; ComponentLink2Description: LP3958 Web Page; ComponentLink2URL: http://www.national.com/pf/LP/LP3958.html; ComponentLink3Description: TLA25CCA Package Page; ComponentLink3URL: http://www.national.com/packaging/folders/tla25cca.html
footprint TLA25CCA (Micro SMD, 25-Leads, Body 2.54x2.54mm, Pitch 0.5mm, NSC Recommended)
pins: A1 IRT, A2 GND (power), A3 VDDA (power), A4 SUB (out), A5 MAIN (out), B1 GPIO[1] (io), B2 VREF, B3 VDD1 (power), B4 GNDT (power), B5 GND_WLED (power), C1 GPIO[0]/PWM (io), C2 GPIO[2] (io), C3 SDA (io), C4 VDDIO (power), C5 VDD2 (power), D1 GND_KEY (power), D2 IKEY, D3 SCL (in), D4 NRST (in), D5 GND_SW (power), E1 KEY3 (out), E2 KEY2 (out), E3 KEY1 (out), E4 FB (in), E5 SW (power)

## LP3958TL/NOPB
designator U?
Lighting Management Unit with High Voltage Boost Converter, 25-pin Micro SMD, Pb-Free; PartNumber: LP3958TL/NOPB; Manufacturer: National Semiconductor; PackageTopMarking: XYTT*I SJHB; PowerWise: Y; CompType: Switcher; Published: 1-Mar-2010; DatasheetVersion: Feb-2006; PackageVersion: revD, Dec-2003; PackageReference: TLA25CCA; Publisher: Altium Limited; PackageDescription: Thin Micro SMD, 25 Bump (Large), 0.5mm Pitch; Supplier 1: Digi-Key; Supplier Part Number 1: LP3958TLTR-ND; Supplier 2: Digi-Key; Supplier Part Number 2: LP3958TLCT-ND; RoHS: Y; PinCount: 25; Code_JEDEC: MO-211-DH; ComponentLink1Description: LP3958 Datasheet; ComponentLink1URL: http://www.national.com/ds/LP/LP3958.pdf; ComponentLink2Description: LP3958 Web Page; ComponentLink2URL: http://www.national.com/pf/LP/LP3958.html; ComponentLink3Description: TLA25CCA Package Page; ComponentLink3URL: http://www.national.com/packaging/folders/tla25cca.html
footprint TLA25CCA (Micro SMD, 25-Leads, Body 2.54x2.54mm, Pitch 0.5mm, NSC Recommended)
pins: A1 IRT, A2 GND (power), A3 VDDA (power), A4 SUB (out), A5 MAIN (out), B1 GPIO[1] (io), B2 VREF, B3 VDD1 (power), B4 GNDT (power), B5 GND_WLED (power), C1 GPIO[0]/PWM (io), C2 GPIO[2] (io), C3 SDA (io), C4 VDDIO (power), C5 VDD2 (power), D1 GND_KEY (power), D2 IKEY, D3 SCL (in), D4 NRST (in), D5 GND_SW (power), E1 KEY3 (out), E2 KEY2 (out), E3 KEY1 (out), E4 FB (in), E5 SW (power)

## LP3958TLX/NOPB
designator U?
Lighting Management Unit with High Voltage Boost Converter, 25-pin Micro SMD, Pb-Free; PartNumber: LP3958TLX/NOPB; Manufacturer: National Semiconductor; PackageTopMarking: XYTT*I SJHB; PowerWise: Y; CompType: Switcher; Published: 1-Mar-2010; DatasheetVersion: Feb-2006; PackageVersion: revD, Dec-2003; PackageReference: TLA25CCA; Publisher: Altium Limited; PackageDescription: Thin Micro SMD, 25 Bump (Large), 0.5mm Pitch; Supplier 1: Digi-Key; Supplier Part Number 1: LP3958TLX-ND; RoHS: Y; PinCount: 25; Code_JEDEC: MO-211-DH; ComponentLink1Description: LP3958 Datasheet; ComponentLink1URL: http://www.national.com/ds/LP/LP3958.pdf; ComponentLink2Description: LP3958 Web Page; ComponentLink2URL: http://www.national.com/pf/LP/LP3958.html; ComponentLink3Description: TLA25CCA Package Page; ComponentLink3URL: http://www.national.com/packaging/folders/tla25cca.html
footprint TLA25CCA (Micro SMD, 25-Leads, Body 2.54x2.54mm, Pitch 0.5mm, NSC Recommended)
pins: A1 IRT, A2 GND (power), A3 VDDA (power), A4 SUB (out), A5 MAIN (out), B1 GPIO[1] (io), B2 VREF, B3 VDD1 (power), B4 GNDT (power), B5 GND_WLED (power), C1 GPIO[0]/PWM (io), C2 GPIO[2] (io), C3 SDA (io), C4 VDDIO (power), C5 VDD2 (power), D1 GND_KEY (power), D2 IKEY, D3 SCL (in), D4 NRST (in), D5 GND_SW (power), E1 KEY3 (out), E2 KEY2 (out), E3 KEY1 (out), E4 FB (in), E5 SW (power)

## LP5520TL
designator U?
RGB Backlight LED Driver, 25-pin Micro SMD; PartNumber: LP5520TL; Manufacturer: National Semiconductor; PackageTopMarking: XYTT*I 5520; PowerWise: Y; CompType: Switcher; Published: 4-Dec-2008; DatasheetVersion: May-2007; PackageVersion: revD, Dec-2003; PackageReference: TLA25EMA; Publisher: Altium Limited; PackageDescription: Thin Micro SMD, 25 Bump (Large), 0.5mm Pitch; RoHS: Y; PinCount: 25; Code_JEDEC: MO-211-DH; ComponentLink1Description: LP5520 Datasheet; ComponentLink1URL: http://www.national.com/ds/LP/LP5520.pdf; ComponentLink2Description: LP5520 Web Page; ComponentLink2URL: http://www.national.com/pf/LP/LP5520.html; ComponentLink3Description: TLA25EMA Package Page; ComponentLink3URL: http://www.national.com/packaging/folders/tla25ema.html
footprint TLA25EMA (Micro SMD, 25-Leads, Body 2.77x2.59mm, Pitch 0.5mm, NSC Recommended)
pins: A1 VDDA (power), A2 GNDT (power), A3 S1_IN (in), A4 BOUT (out), A5 GOUT (out), B1 VLDO (power), B2 BRC (in), B3 S2_IN (in), B4 PWMB (in), B5 ROUT (out), C1 VDDIO (power), C2 NRST (in), C3 PWMG (in), C4 GNDA (power), C5 GND_LED (power), D1 SS/SDA (io), D2 SCK/SCL (in), D3 IFSEL (in), D4 PWMR (in), D5 GND_SW (power), E1 SO (out), E2 SI/A0 (in), E3 VDDD (power), E4 FB (in), E5 SW (power)

## LP5520TL/NOPB
designator U?
RGB Backlight LED Driver, 25-pin Micro SMD, Pb-Free; PartNumber: LP5520TL/NOPB; Manufacturer: National Semiconductor; PackageTopMarking: XYTT*I 5520; PowerWise: Y; CompType: Switcher; Published: 1-Mar-2010; DatasheetVersion: May-2007; PackageVersion: revD, Dec-2003; PackageReference: TLA25EMA; Publisher: Altium Limited; PackageDescription: Thin Micro SMD, 25 Bump (Large), 0.5mm Pitch; Supplier 1: Digi-Key; Supplier Part Number 1: LP5520TLTR-ND; Supplier 2: Digi-Key; Supplier Part Number 2: LP5520TLCT-ND; Supplier 3: Digi-Key; Supplier Part Number 3: LP5520TLDKR-ND; RoHS: Y; PinCount: 25; Code_JEDEC: MO-211-DH; ComponentLink1Description: LP5520 Datasheet; ComponentLink1URL: http://www.national.com/ds/LP/LP5520.pdf; ComponentLink2Description: LP5520 Web Page; ComponentLink2URL: http://www.national.com/pf/LP/LP5520.html; ComponentLink3Description: TLA25EMA Package Page; ComponentLink3URL: http://www.national.com/packaging/folders/tla25ema.html
footprint TLA25EMA (Micro SMD, 25-Leads, Body 2.77x2.59mm, Pitch 0.5mm, NSC Recommended)
pins: A1 VDDA (power), A2 GNDT (power), A3 S1_IN (in), A4 BOUT (out), A5 GOUT (out), B1 VLDO (power), B2 BRC (in), B3 S2_IN (in), B4 PWMB (in), B5 ROUT (out), C1 VDDIO (power), C2 NRST (in), C3 PWMG (in), C4 GNDA (power), C5 GND_LED (power), D1 SS/SDA (io), D2 SCK/SCL (in), D3 IFSEL (in), D4 PWMR (in), D5 GND_SW (power), E1 SO (out), E2 SI/A0 (in), E3 VDDD (power), E4 FB (in), E5 SW (power)

## LP5520TLX/NOPB
designator U?
RGB Backlight LED Driver, 25-pin Micro SMD, Pb-Free; PartNumber: LP5520TLX/NOPB; Manufacturer: National Semiconductor; PackageTopMarking: XYTT*I 5520; PowerWise: Y; CompType: Switcher; Published: 1-Mar-2010; DatasheetVersion: May-2007; PackageVersion: revD, Dec-2003; PackageReference: TLA25EMA; Publisher: Altium Limited; PackageDescription: Thin Micro SMD, 25 Bump (Large), 0.5mm Pitch; Supplier 1: Digi-Key; Supplier Part Number 1: LP5520TLX-ND; RoHS: Y; PinCount: 25; Code_JEDEC: MO-211-DH; ComponentLink1Description: LP5520 Datasheet; ComponentLink1URL: http://www.national.com/ds/LP/LP5520.pdf; ComponentLink2Description: LP5520 Web Page; ComponentLink2URL: http://www.national.com/pf/LP/LP5520.html; ComponentLink3Description: TLA25EMA Package Page; ComponentLink3URL: http://www.national.com/packaging/folders/tla25ema.html
footprint TLA25EMA (Micro SMD, 25-Leads, Body 2.77x2.59mm, Pitch 0.5mm, NSC Recommended)
pins: A1 VDDA (power), A2 GNDT (power), A3 S1_IN (in), A4 BOUT (out), A5 GOUT (out), B1 VLDO (power), B2 BRC (in), B3 S2_IN (in), B4 PWMB (in), B5 ROUT (out), C1 VDDIO (power), C2 NRST (in), C3 PWMG (in), C4 GNDA (power), C5 GND_LED (power), D1 SS/SDA (io), D2 SCK/SCL (in), D3 IFSEL (in), D4 PWMR (in), D5 GND_SW (power), E1 SO (out), E2 SI/A0 (in), E3 VDDD (power), E4 FB (in), E5 SW (power)

## LP5521TM
designator U?
Programmable Three Channel LED Driver, 20-pin Micro SMD; PartNumber: LP5521TM; Manufacturer: National Semiconductor; PackageTopMarking: XYTT*I 5521; PowerWise: Y; CompType: Switcher; Published: 4-Dec-2008; DatasheetVersion: May-2008; PackageVersion: revD, 2008; PackageReference: TMD20ECA; Publisher: Altium Limited; PackageDescription: Thin Micro SMD, 20 Bump, 0.4mm Pitch; RoHS: Y; PinCount: 20; ComponentLink1Description: LP5521 Datasheet; ComponentLink1URL: http://www.national.com/ds/LP/LP5521.pdf; ComponentLink2Description: LP5521 Web Page; ComponentLink2URL: http://www.national.com/pf/LP/LP5521.html
footprint TMD20ECA (Micro SMD, 20-Leads, Body 2.07x1.72mm, Pitch 0.4mm, NSC Recommended)
pins: A1 B (out), A2 VOUT, A3 CFLY2N, A4 CFLY2P, B1 G (out), B2 ADDR_SEL1 (in), B3 CFLY1N, B4 CFLY1P, C1 R (out), C2 ADDR_SEL0 (in), C3 GND (power), C4 VDD (power), D1 SCL (in), D2 GPO (out), D3 CLK_32K (in), D4 GND (power), E1 SDA (io), E2 EN (in), E3 INT (out), E4 TRIG (io)

## LP5521TM/NOPB
designator U?
Programmable Three Channel LED Driver, 20-pin Micro SMD, Pb-Free; PartNumber: LP5521TM/NOPB; Manufacturer: National Semiconductor; PackageTopMarking: XYTT*I 5521; PowerWise: Y; CompType: Switcher; Published: 1-Mar-2010; DatasheetVersion: May-2008; PackageVersion: revD, 2008; PackageReference: TMD20ECA; Publisher: Altium Limited; PackageDescription: Thin Micro SMD, 20 Bump, 0.4mm Pitch; Supplier 1: Digi-Key; Supplier Part Number 1: LP5521TMTR-ND; Supplier 2: Digi-Key; Supplier Part Number 2: LP5521TMCT-ND; Supplier 3: Digi-Key; Supplier Part Number 3: LP5521TMDKR-ND; Supplier 4: Farnell; Supplier Part Number 4: 1675296; RoHS: Y; PinCount: 20; ComponentLink1Description: LP5521 Datasheet; ComponentLink1URL: http://www.national.com/ds/LP/LP5521.pdf; ComponentLink2Description: LP5521 Web Page; ComponentLink2URL: http://www.national.com/pf/LP/LP5521.html; ComponentLink3Description: TMD20ECA Package Page; ComponentLink3URL: http://www.national.com/packaging/folders/tmd20eca.html
footprint TMD20ECA (Micro SMD, 20-Leads, Body 2.07x1.72mm, Pitch 0.4mm, NSC Recommended)
pins: A1 B (out), A2 VOUT, A3 CFLY2N, A4 CFLY2P, B1 G (out), B2 ADDR_SEL1 (in), B3 CFLY1N, B4 CFLY1P, C1 R (out), C2 ADDR_SEL0 (in), C3 GND (power), C4 VDD (power), D1 SCL (in), D2 GPO (out), D3 CLK_32K (in), D4 GND (power), E1 SDA (io), E2 EN (in), E3 INT (out), E4 TRIG (io)

## LP5521TMX/NOPB
designator U?
Programmable Three Channel LED Driver, 20-pin Micro SMD, Pb-Free; PartNumber: LP5521TMX/NOPB; Manufacturer: National Semiconductor; PackageTopMarking: XYTT*I 5521; PowerWise: Y; CompType: Switcher; Published: 1-Mar-2010; DatasheetVersion: May-2008; PackageVersion: revD, 2008; PackageReference: TMD20ECA; Publisher: Altium Limited; PackageDescription: Thin Micro SMD, 20 Bump, 0.4mm Pitch; Supplier 1: Digi-Key; Supplier Part Number 1: LP5521TMX-ND; RoHS: Y; PinCount: 20; ComponentLink1Description: LP5521 Datasheet; ComponentLink1URL: http://www.national.com/ds/LP/LP5521.pdf; ComponentLink2Description: LP5521 Web Page; ComponentLink2URL: http://www.national.com/pf/LP/LP5521.html; ComponentLink3Description: TMD20ECA Package Page; ComponentLink3URL: http://www.national.com/packaging/folders/tmd20eca.html
footprint TMD20ECA (Micro SMD, 20-Leads, Body 2.07x1.72mm, Pitch 0.4mm, NSC Recommended)
pins: A1 B (out), A2 VOUT, A3 CFLY2N, A4 CFLY2P, B1 G (out), B2 ADDR_SEL1 (in), B3 CFLY1N, B4 CFLY1P, C1 R (out), C2 ADDR_SEL0 (in), C3 GND (power), C4 VDD (power), D1 SCL (in), D2 GPO (out), D3 CLK_32K (in), D4 GND (power), E1 SDA (io), E2 EN (in), E3 INT (out), E4 TRIG (io)

## LP5521YQ
designator U?
Programmable Three Channel LED Driver, 25-pin LLP; PartNumber: LP5521YQ; Manufacturer: National Semiconductor; PackageTopMarking: NS*UZXYTT*L5521YQ; PowerWise: Y; CompType: Switcher; Published: 4-Dec-2008; DatasheetVersion: May-2008; PackageVersion: revB, Jun-2005; PackageReference: YQA24A; Publisher: Altium Limited; PackageDescription: LLP, Plastic, Quad, 5 x 4 x 0.8mm Body, 24 Lead, 0.5mm Pitch; RoHS: Y; PinCount: 24; ComponentLink1Description: LP5521 Datasheet; ComponentLink1URL: http://www.national.com/ds/LP/LP5521.pdf; ComponentLink2Description: LP5521 Web Page; ComponentLink2URL: http://www.national.com/pf/LP/LP5521.html; ComponentLink3Description: YQA24A Package Page; ComponentLink3URL: http://www.national.com/packaging/folders/yqa24a.html
footprint YQA24A (PQFN, 24-Leads, Body 4x5mm, Pitch 0.5mm, NSC Recommended)
pins: 1 CFLY2P, 2 CFLY1P, 3 VDD (power), 4 GND (power), 5 CLK_32K (in), 6 INT (out), 7 TRIG (io), 8 NC, 9 NC, 10 NC, 11 NC, 12 NC, 13 SDA (io), 14 EN (in), 15 SCL (in), 16 GPO (out), 17 R (out), 18 G (out), 19 B (out), 20 ADDR_SEL0 (in), 21 ADDR_SEL1 (in), 22 VOUT, 23 CFLY2N, 24 CFLY1N, 25 DAP (power)

## LP5521YQ/NOPB
designator U?
Programmable Three Channel LED Driver, 25-pin LLP, Pb-Free; PartNumber: LP5521YQ/NOPB; Manufacturer: National Semiconductor; PackageTopMarking: NS*UZXYTT*L5521YQ; PowerWise: Y; CompType: Switcher; Published: 1-Mar-2010; DatasheetVersion: May-2008; PackageVersion: revB, Jun-2005; PackageReference: YQA24A; Publisher: Altium Limited; PackageDescription: LLP, Plastic, Quad, 5 x 4 x 0.8mm Body, 24 Lead, 0.5mm Pitch; Supplier 1: Digi-Key; Supplier Part Number 1: LP5521YQTR-ND; Supplier 2: Digi-Key; Supplier Part Number 2: LP5521YQCT-ND; Supplier 3: Digi-Key; Supplier Part Number 3: LP5521YQDKR-ND; RoHS: Y; PinCount: 24; ComponentLink1Description: LP5521 Datasheet; ComponentLink1URL: http://www.national.com/ds/LP/LP5521.pdf; ComponentLink2Description: LP5521 Web Page; ComponentLink2URL: http://www.national.com/pf/LP/LP5521.html; ComponentLink3Description: YQA24A Package Page; ComponentLink3URL: http://www.national.com/packaging/folders/yqa24a.html
footprint YQA24A (PQFN, 24-Leads, Body 4x5mm, Pitch 0.5mm, NSC Recommended)
pins: 1 CFLY2P, 2 CFLY1P, 3 VDD (power), 4 GND (power), 5 CLK_32K (in), 6 INT (out), 7 TRIG (io), 8 NC, 9 NC, 10 NC, 11 NC, 12 NC, 13 SDA (io), 14 EN (in), 15 SCL (in), 16 GPO (out), 17 R (out), 18 G (out), 19 B (out), 20 ADDR_SEL0 (in), 21 ADDR_SEL1 (in), 22 VOUT, 23 CFLY2N, 24 CFLY1N, 25 DAP (power)

## LP5521YQX/NOPB
designator U?
Programmable Three Channel LED Driver, 25-pin LLP, Pb-Free; PartNumber: LP5521YQX/NOPB; Manufacturer: National Semiconductor; PackageTopMarking: NS*UZXYTT*L5521YQ; PowerWise: Y; CompType: Switcher; Published: 1-Mar-2010; DatasheetVersion: May-2008; PackageVersion: revB, Jun-2005; PackageReference: YQA24A; Publisher: Altium Limited; PackageDescription: LLP, Plastic, Quad, 5 x 4 x 0.8mm Body, 24 Lead, 0.5mm Pitch; Supplier 1: Digi-Key; Supplier Part Number 1: LP5521YQX-ND; RoHS: Y; PinCount: 24; ComponentLink1Description: LP5521 Datasheet; ComponentLink1URL: http://www.national.com/ds/LP/LP5521.pdf; ComponentLink2Description: LP5521 Web Page; ComponentLink2URL: http://www.national.com/pf/LP/LP5521.html; ComponentLink3Description: YQA24A Package Page; ComponentLink3URL: http://www.national.com/packaging/folders/yqa24a.html
footprint YQA24A (PQFN, 24-Leads, Body 4x5mm, Pitch 0.5mm, NSC Recommended)
pins: 1 CFLY2P, 2 CFLY1P, 3 VDD (power), 4 GND (power), 5 CLK_32K (in), 6 INT (out), 7 TRIG (io), 8 NC, 9 NC, 10 NC, 11 NC, 12 NC, 13 SDA (io), 14 EN (in), 15 SCL (in), 16 GPO (out), 17 R (out), 18 G (out), 19 B (out), 20 ADDR_SEL0 (in), 21 ADDR_SEL1 (in), 22 VOUT, 23 CFLY2N, 24 CFLY1N, 25 DAP (power)

## LP5522TM
designator U?
Programmable LED Driver, 6-pin Micro SMD; PartNumber: LP5522TM; Manufacturer: National Semiconductor; PackageTopMarking: XV*I 6; PowerWise: Y; CompType: Switcher; Published: 4-Dec-2008; DatasheetVersion: Jun-2007; PackageVersion: revB, 2007; PackageReference: TMD06AAA; Publisher: Altium Limited; PackageDescription: Thin Micro SMD, 6 Bump, 0.4mm Pitch; RoHS: Y; PinCount: 6; ComponentLink1Description: LP5522 Datasheet; ComponentLink1URL: http://www.national.com/ds/LP/LP5522.pdf; ComponentLink2Description: LP5522 Web Page; ComponentLink2URL: http://www.national.com/pf/LP/LP5522.html
footprint TMD06AAA (Micro SMD, 6-Leads, Body 1.22x0.82mm, Pitch 0.4mm, NSC Recommended)
pins: A1 VDD (power), A2 LED (out), B1 ISET (in), B2 GND (power), C1 CTRL (in), C2 GNDT (power)

## LP5522TM/NOPB
designator U?
Programmable LED Driver, 6-pin Micro SMD, Pb-Free; PartNumber: LP5522TM/NOPB; Manufacturer: National Semiconductor; PackageTopMarking: XV*I 6; PowerWise: Y; CompType: Switcher; Published: 1-Mar-2010; DatasheetVersion: Jun-2007; PackageVersion: revB, 2007; PackageReference: TMD06AAA; Publisher: Altium Limited; PackageDescription: Thin Micro SMD, 6 Bump, 0.4mm Pitch; Supplier 1: Digi-Key; Supplier Part Number 1: LP5522TMTR-ND; Supplier 2: Digi-Key; Supplier Part Number 2: LP5522TMCT-ND; Supplier 3: Digi-Key; Supplier Part Number 3: LP5522TMDKR-ND; RoHS: Y; PinCount: 6; ComponentLink1Description: LP5522 Datasheet; ComponentLink1URL: http://www.national.com/ds/LP/LP5522.pdf; ComponentLink2Description: LP5522 Web Page; ComponentLink2URL: http://www.national.com/pf/LP/LP5522.html; ComponentLink3Description: TMD06AAA Package Page; ComponentLink3URL: http://www.national.com/packaging/folders/tmd06aaa.html
footprint TMD06AAA (Micro SMD, 6-Leads, Body 1.22x0.82mm, Pitch 0.4mm, NSC Recommended)
pins: A1 VDD (power), A2 LED (out), B1 ISET (in), B2 GND (power), C1 CTRL (in), C2 GNDT (power)

## LP5522TMX/NOPB
designator U?
Programmable LED Driver, 6-pin Micro SMD, Pb-Free; PartNumber: LP5522TMX/NOPB; Manufacturer: National Semiconductor; PackageTopMarking: XV*I 6; PowerWise: Y; CompType: Switcher; Published: 1-Mar-2010; DatasheetVersion: Jun-2007; PackageVersion: revB, 2007; PackageReference: TMD06AAA; Publisher: Altium Limited; PackageDescription: Thin Micro SMD, 6 Bump, 0.4mm Pitch; Supplier 1: Digi-Key; Supplier Part Number 1: LP5522TMX-ND; RoHS: Y; PinCount: 6; ComponentLink1Description: LP5522 Datasheet; ComponentLink1URL: http://www.national.com/ds/LP/LP5522.pdf; ComponentLink2Description: LP5522 Web Page; ComponentLink2URL: http://www.national.com/pf/LP/LP5522.html; ComponentLink3Description: TMD06AAA Package Page; ComponentLink3URL: http://www.national.com/packaging/folders/tmd06aaa.html
footprint TMD06AAA (Micro SMD, 6-Leads, Body 1.22x0.82mm, Pitch 0.4mm, NSC Recommended)
pins: A1 VDD (power), A2 LED (out), B1 ISET (in), B2 GND (power), C1 CTRL (in), C2 GNDT (power)

## LP5524TM-5
designator U?
Parallel LED Driver with PWM Brightness Control, 9-pin Micro SMD; PartNumber: LP5524TM-5; Manufacturer: National Semiconductor; PackageTopMarking: XV*I V2; PowerWise: N; CompType: Switcher; Published: 4-Dec-2008; DatasheetVersion: Jul-2007; PackageVersion: revA, May-2005; PackageReference: TMD09AAA; Publisher: Altium Limited; PackageDescription: Thin Micro SMD, 9 Bump, 0.4mm Pitch; Supplier 1: Farnell; Supplier Part Number 1: 1506813; RoHS: Y; PinCount: 9; ComponentLink1Description: LP5524 Datasheet; ComponentLink1URL: http://www.national.com/ds/LP/LP5524.pdf; ComponentLink2Description: LP5524 Web Page; ComponentLink2URL: http://www.national.com/pf/LP/LP5524.html; ComponentLink3Description: TMD09AAA Package Page; ComponentLink3URL: http://www.national.com/packaging/folders/tmd09aaa.html
footprint TMD09AAA (Micro SMD, 9-Leads, Body 1.22x1.22mm, Pitch 0.4mm, NSC Recommended)
pins: A1 ISET (in), A2 ENB (in), A3 ENA (in), B1 D1B (out), B2 VIN (power), B3 D1A (out), C1 D2B (out), C2 GND (power), C3 D2A (out)

## LP5524TM-5/NOPB
designator U?
Parallel LED Driver with PWM Brightness Control, 9-pin Micro SMD, Pb-Free; PartNumber: LP5524TM-5/NOPB; Manufacturer: National Semiconductor; PackageTopMarking: XV*I V2; PowerWise: N; CompType: Switcher; Published: 1-Mar-2010; DatasheetVersion: Jul-2007; PackageVersion: revA, May-2005; PackageReference: TMD09AAA; Publisher: Altium Limited; PackageDescription: Thin Micro SMD, 9 Bump, 0.4mm Pitch; Supplier 1: Digi-Key; Supplier Part Number 1: LP5524TM-5TR-ND; Supplier 2: Digi-Key; Supplier Part Number 2: LP5524TM-5CT-ND; Supplier 3: Digi-Key; Supplier Part Number 3: LP5524TM-5DKR-ND; RoHS: Y; PinCount: 9; ComponentLink1Description: LP5524 Datasheet; ComponentLink1URL: http://www.national.com/ds/LP/LP5524.pdf; ComponentLink2Description: LP5524 Web Page; ComponentLink2URL: http://www.national.com/pf/LP/LP5524.html; ComponentLink3Description: TMD09AAA Package Page; ComponentLink3URL: http://www.national.com/packaging/folders/tmd09aaa.html
footprint TMD09AAA (Micro SMD, 9-Leads, Body 1.22x1.22mm, Pitch 0.4mm, NSC Recommended)
pins: A1 ISET (in), A2 ENB (in), A3 ENA (in), B1 D1B (out), B2 VIN (power), B3 D1A (out), C1 D2B (out), C2 GND (power), C3 D2A (out)

## LP5524TMX-5/NOPB
designator U?
Parallel LED Driver with PWM Brightness Control, 9-pin Micro SMD, Pb-Free; PartNumber: LP5524TMX-5/NOPB; Manufacturer: National Semiconductor; PackageTopMarking: XV*I V2; PowerWise: N; CompType: Switcher; Published: 1-Mar-2010; DatasheetVersion: Jul-2007; PackageVersion: revA, May-2005; PackageReference: TMD09AAA; Publisher: Altium Limited; PackageDescription: Thin Micro SMD, 9 Bump, 0.4mm Pitch; Supplier 1: Digi-Key; Supplier Part Number 1: LP5524TMX-5-ND; RoHS: Y; PinCount: 9; ComponentLink1Description: LP5524 Datasheet; ComponentLink1URL: http://www.national.com/ds/LP/LP5524.pdf; ComponentLink2Description: LP5524 Web Page; ComponentLink2URL: http://www.national.com/pf/LP/LP5524.html; ComponentLink3Description: TMD09AAA Package Page; ComponentLink3URL: http://www.national.com/packaging/folders/tmd09aaa.html
footprint TMD09AAA (Micro SMD, 9-Leads, Body 1.22x1.22mm, Pitch 0.4mm, NSC Recommended)
pins: A1 ISET (in), A2 ENB (in), A3 ENA (in), B1 D1B (out), B2 VIN (power), B3 D1A (out), C1 D2B (out), C2 GND (power), C3 D2A (out)

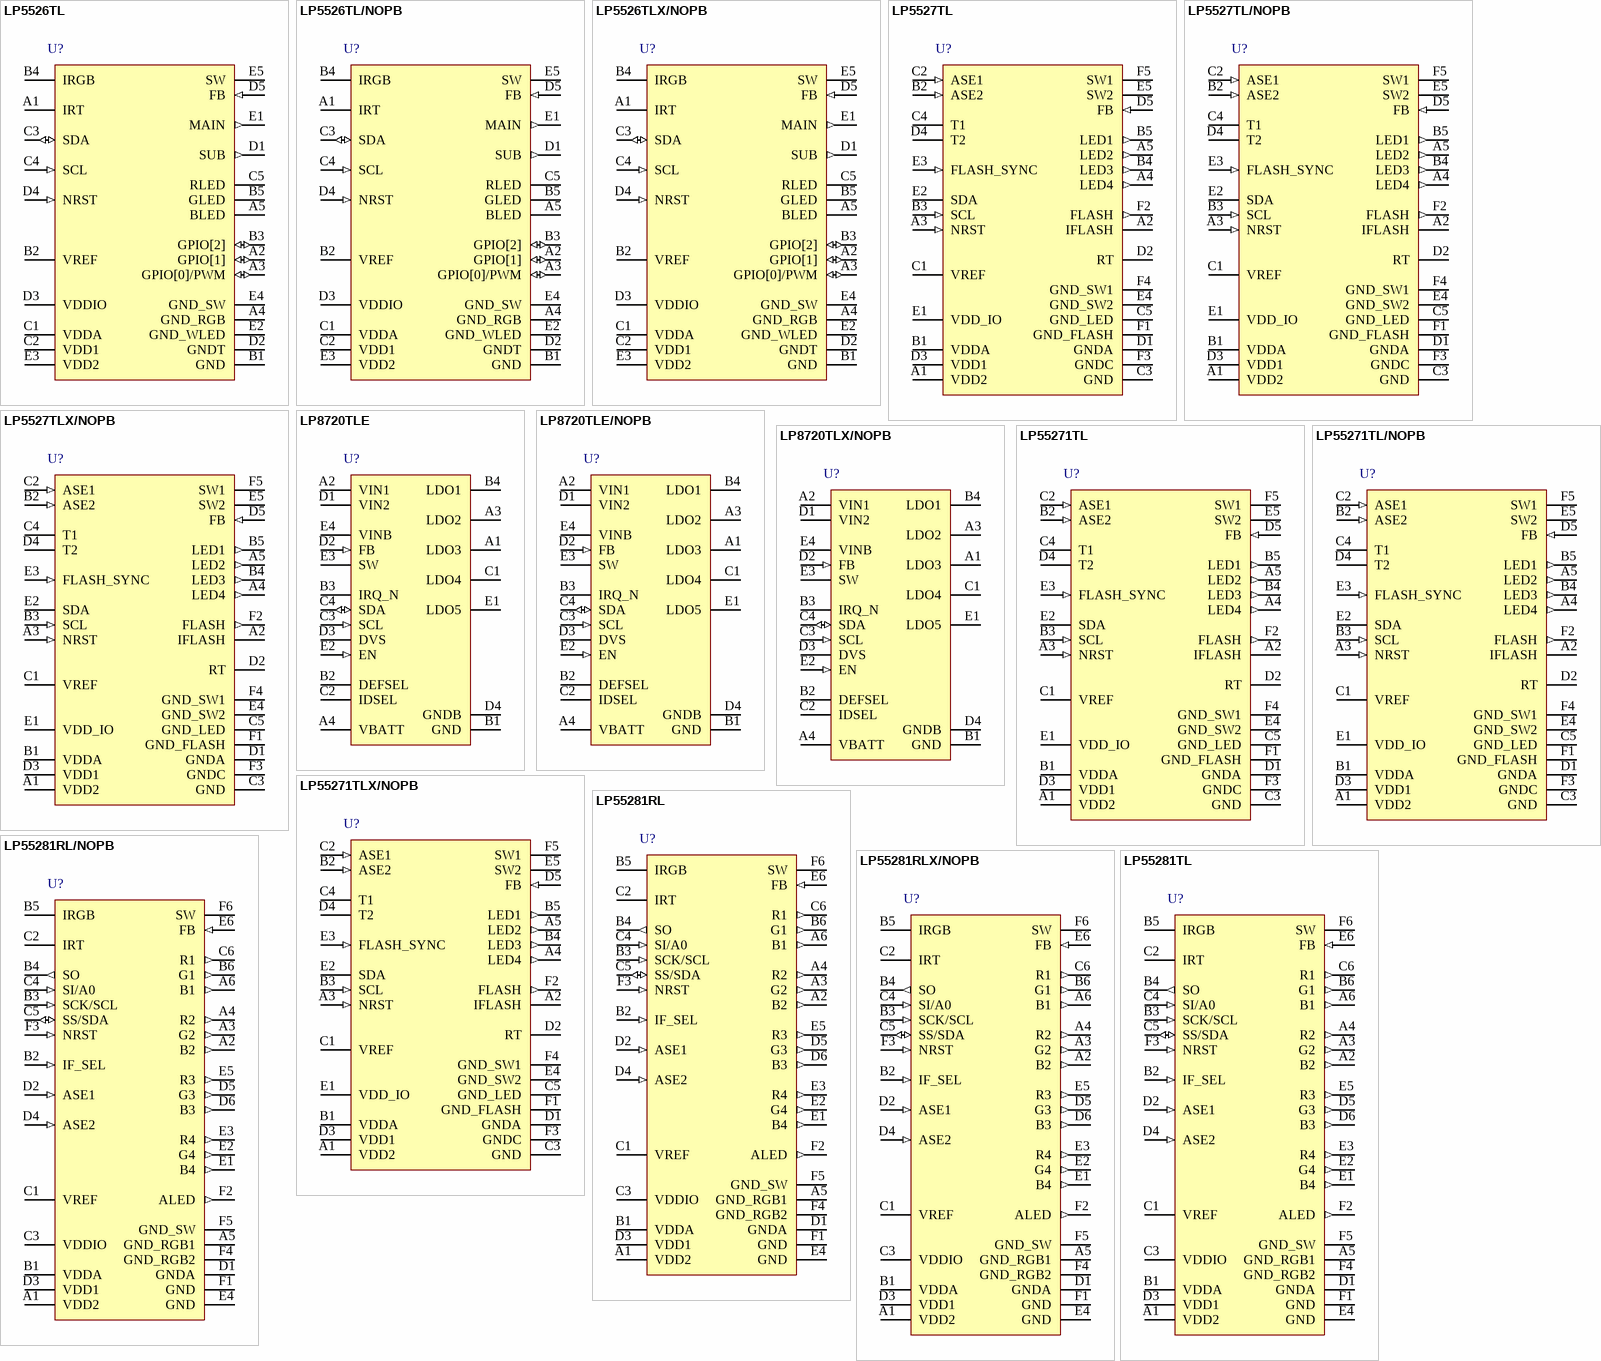
[diagram p62: symbols LP5526TL to LP55281TL]

## LP5526TL
designator U?
Lighting Management Unit with High Voltage Boost Converter with up to 150mA Serial FLASH LED Driver, 25-pin Micro SMD; PartNumber: LP5526TL; Manufacturer: National Semiconductor; PackageTopMarking: XYTT*I 5526; PowerWise: Y; CompType: Switcher; Published: 4-Dec-2008; DatasheetVersion: Mar-2006; PackageVersion: revD, Dec-2003; PackageReference: TLA25CCA; Publisher: Altium Limited; PackageDescription: Thin Micro SMD, 25 Bump (Large), 0.5mm Pitch; Supplier 1: Farnell; Supplier Part Number 1: 1286805; RoHS: Y; PinCount: 25; Code_JEDEC: MO-211-DH; ComponentLink1Description: LP5526 Datasheet; ComponentLink1URL: http://www.national.com/ds/LP/LP5526.pdf; ComponentLink2Description: LP5526 Web Page; ComponentLink2URL: http://www.national.com/pf/LP/LP5526.html; ComponentLink3Description: TLA25CCA Package Page; ComponentLink3URL: http://www.national.com/packaging/folders/tla25cca.html
footprint TLA25CCA (Micro SMD, 25-Leads, Body 2.54x2.54mm, Pitch 0.5mm, NSC Recommended)
pins: A1 IRT, A2 GPIO[1] (io), A3 GPIO[0]/PWM (io), A4 GND_RGB (power), A5 BLED (oc), B1 GND (power), B2 VREF, B3 GPIO[2] (io), B4 IRGB, B5 GLED (oc), C1 VDDA (power), C2 VDD1 (power), C3 SDA (io), C4 SCL (in), C5 RLED (oc), D1 SUB (out), D2 GNDT (power), D3 VDDIO (power), D4 NRST (in), D5 FB (in), E1 MAIN (out), E2 GND_WLED (power), E3 VDD2 (power), E4 GND_SW (power), E5 SW (power)

## LP5526TL/NOPB
designator U?
Lighting Management Unit with High Voltage Boost Converter with up to 150mA Serial FLASH LED Driver, 25-pin Micro SMD, Pb-Free; PartNumber: LP5526TL/NOPB; Manufacturer: National Semiconductor; PackageTopMarking: XYTT*I 5526; PowerWise: Y; CompType: Switcher; Published: 1-Mar-2010; DatasheetVersion: Mar-2006; PackageVersion: revD, Dec-2003; PackageReference: TLA25CCA; Publisher: Altium Limited; PackageDescription: Thin Micro SMD, 25 Bump (Large), 0.5mm Pitch; Supplier 1: Digi-Key; Supplier Part Number 1: LP5526TLTR-ND; Supplier 2: Digi-Key; Supplier Part Number 2: LP5526TLCT-ND; Supplier 3: Digi-Key; Supplier Part Number 3: LP5526TLDKR-ND; RoHS: Y; PinCount: 25; Code_JEDEC: MO-211-DH; ComponentLink1Description: LP5526 Datasheet; ComponentLink1URL: http://www.national.com/ds/LP/LP5526.pdf; ComponentLink2Description: LP5526 Web Page; ComponentLink2URL: http://www.national.com/pf/LP/LP5526.html; ComponentLink3Description: TLA25CCA Package Page; ComponentLink3URL: http://www.national.com/packaging/folders/tla25cca.html
footprint TLA25CCA (Micro SMD, 25-Leads, Body 2.54x2.54mm, Pitch 0.5mm, NSC Recommended)
pins: A1 IRT, A2 GPIO[1] (io), A3 GPIO[0]/PWM (io), A4 GND_RGB (power), A5 BLED (oc), B1 GND (power), B2 VREF, B3 GPIO[2] (io), B4 IRGB, B5 GLED (oc), C1 VDDA (power), C2 VDD1 (power), C3 SDA (io), C4 SCL (in), C5 RLED (oc), D1 SUB (out), D2 GNDT (power), D3 VDDIO (power), D4 NRST (in), D5 FB (in), E1 MAIN (out), E2 GND_WLED (power), E3 VDD2 (power), E4 GND_SW (power), E5 SW (power)